# EAGLE library part 700-MAX5902ACEUTT (library IGVC-Discrete)
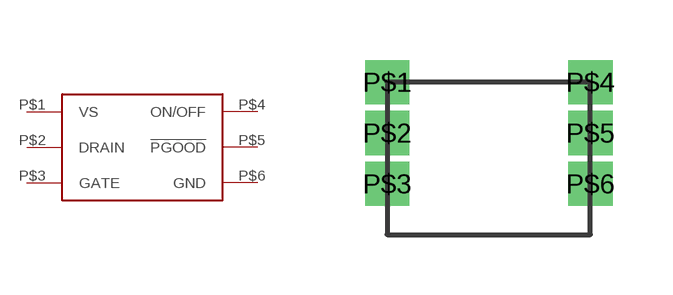
[diagram p0: symbol with the pads of 700-MAX5902ACEUTT; footprint 700-MAX5902ACEUTT]

Designator prefix -

## 700-MAX5902ACEUTT  [700-MAX5902ACEUTT]
P$1  VS
P$2  DRAIN
P$3  GATE
P$4  ON/OFF
P$5  !PGOOD
P$6  GND

## Footprint 700-MAX5902ACEUTT (pad centres in mm)
drill 0.6 square: P$1 0,3.81; P$2 0,2.54; P$3 0,1.27; P$4 5.08,3.81; P$5 5.08,2.54; P$6 5.08,1.27